# EAGLE library part RESISTOR_ARRAY4 (library TEABOX-LIB)
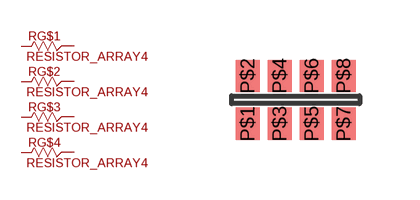
[diagram p22: symbol with the pads of RESISTOR_ARRAY_0603X4; footprint RESISTOR_ARRAY_0603X4]

Designator prefix R; gates G$1=RESISTOR G$2=RESISTOR G$3=RESISTOR G$4=RESISTOR

## RESISTOR_ARRAY4  [RESISTOR_ARRAY_0603X4]
P$1  G$1:P$1
P$2  G$1:P$2
P$3  G$2:P$1
P$4  G$2:P$2
P$5  G$3:P$1
P$6  G$3:P$2
P$7  G$4:P$1
P$8  G$4:P$2

## Footprint RESISTOR_ARRAY_0603X4 (pad centres in mm)
smd 0.6 x 0.8: P$1 0.4,0.2; P$2 0.4,1.4; P$3 1.2,0.2; P$4 1.2,1.4; P$5 2,0.2; P$6 2,1.4; P$7 2.8,0.2; P$8 2.8,1.4